# EAGLE library part CD4047B_PW_14 (library texas)
Monostable Multivibrator 80ns 14-TSSOP
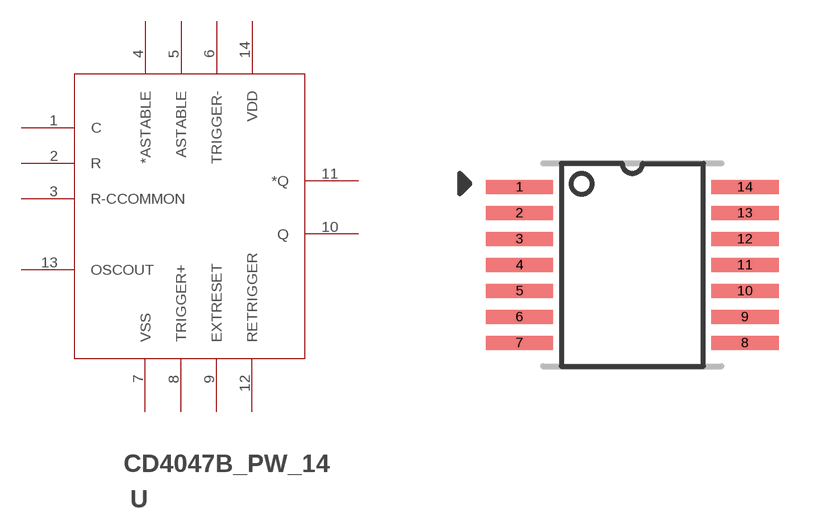
[diagram p126: symbol with the pads of PW14; footprint PW14]

Designator prefix U

## CD4047B_PW_141 (DATASHEETURL: http://www.ti.com/lit/gpn/CD4047B; DESCRIPTION: CMOS Low-Power Monostable/Astable Multivibrator; FAMILY_NAME: MONOSTABLE MULTIVIBRATOR; GENERIC_PART_NUMBER: CD4047B; INDUSTRY_STD_PKG_TYPE: TSSOP; MANUFACTURER: Texas Instruments; MPN: CD4047BPWR; PACKAGE_DESIGNATOR: PW; PIN_COUNT: 14)  [PW14]
1  C  pas
2  R  pas
3  R-CCOMMON  pas
4  *ASTABLE  pas
5  ASTABLE  pas
6  TRIGGER-  pas
7  VSS  pwr
8  TRIGGER+  pas
9  EXTRESET  pas
10  Q  pas
11  *Q  pas
12  RETRIGGER  pas
13  OSCOUT  out
14  VDD  pwr

## Footprint PW14 (pad centres in mm)
PW14_08_20_2016
smd 1.676 x 0.356: 1 -2.819,1.95; 2 -2.819,1.3; 3 -2.819,0.65; 4 -2.819,0; 5 -2.819,-0.65; 6 -2.819,-1.3; 7 -2.819,-1.95; 8 2.819,-1.95; 9 2.819,-1.3; 10 2.819,-0.65; 11 2.819,0; 12 2.819,0.65; 13 2.819,1.3; 14 2.819,1.95